# EAGLE library part INA219BIDCNT (library INA219BIDCNT)
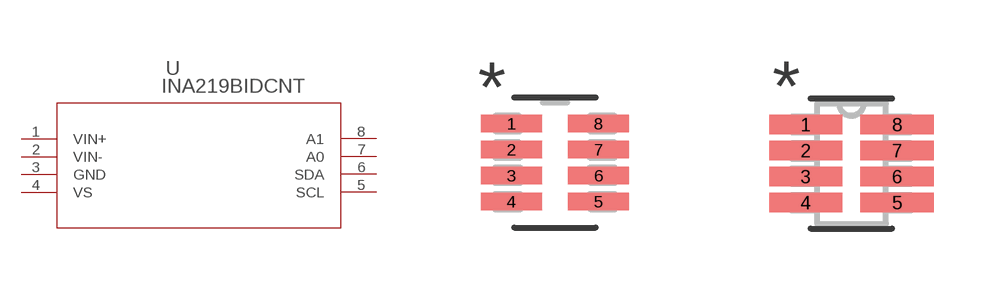
[diagram p0: symbol with the pads of DCN8; footprints DCN8, DCN8-M]

Designator prefix U

## INA219BIDCNT (MANUFACTURER_PART_NUMBER: INA219BIDCNT; VENDOR: Texas Instruments)  [DCN8]
1  VIN+  in
2  VIN-  in
3  GND  pwr
4  VS  pwr
5  SCL  pas
6  SDA  pas
7  A0  pas
8  A1  pas

## INA219BIDCNTDCN8-M (MANUFACTURER_PART_NUMBER: INA219BIDCNT; VENDOR: Texas Instruments)  [DCN8-M]
Pads as for DCN8

## INA219BIDCNTDCN8-L (MANUFACTURER_PART_NUMBER: INA219BIDCNT; VENDOR: Texas Instruments)  [DCN8-L]
Pads as for DCN8

## Footprint DCN8 (pad centres in mm)
smd 1.524 x 0.432: 1 -1.092,0.975; 2 -1.092,0.325; 3 -1.092,-0.325; 4 -1.092,-0.975; 5 1.092,-0.975; 6 1.092,-0.325; 7 1.092,0.325; 8 1.092,0.975

## Footprint DCN8-M (pad centres in mm)
smd 1.829 x 0.483: 1 -1.143,0.975; 2 -1.143,0.325; 3 -1.143,-0.325; 4 -1.143,-0.975; 5 1.143,-0.975; 6 1.143,-0.325; 7 1.143,0.325; 8 1.143,0.975

## Footprint DCN8-L (pad centres in mm)
smd 1.219 x 0.381: 1 -1.041,0.975; 2 -1.041,0.325; 3 -1.041,-0.325; 4 -1.041,-0.975; 5 1.041,-0.975; 6 1.041,-0.325; 7 1.041,0.325; 8 1.041,0.975